# EAGLE library part FAB16Q2 (library con-vg)
CONNECTOR female, 16 pins type Q/2, rows AB, grid 2.54 mm / 5.08 mm
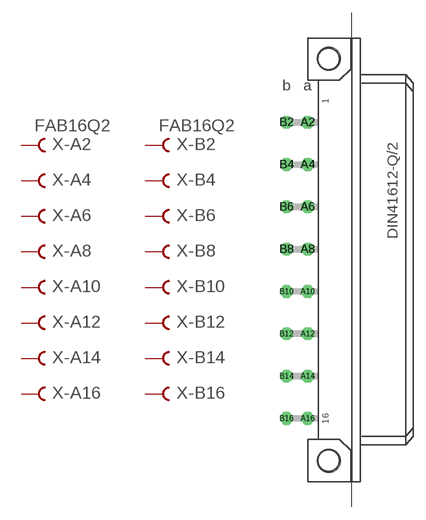
[diagram p49: symbol with the pads of FAB16Q2; footprint FAB16Q2]

Designator prefix X; gates -A4=FEM -A6=FEM -A8=FEM -A10=FEM -A12=FEM -A14=FEM -A16=FEM -B4=FEM -B6=FEM -B8=FEM -B10=FEM -B12=FEM -B14=FEM -B16=FEM -A2=FVAL -B2=FVAL

## FAB16Q2  [FAB16Q2]
A2  -A2:B  pas
A4  -A4:B  pas
A6  -A6:B  pas
A8  -A8:B  pas
A10  -A10:B  pas
A12  -A12:B  pas
A14  -A14:B  pas
A16  -A16:B  pas
B2  -B2:B  pas
B4  -B4:B  pas
B6  -B6:B  pas
B8  -B8:B  pas
B10  -B10:B  pas
B12  -B12:B  pas
B14  -B14:B  pas
B16  -B16:B  pas

## Footprint FAB16Q2 (pad centres in mm)
CONNECTOR female, 16 pins type Q/2, rows AB, grid 2.54 mm / 5.08 mm
drill 1.016 octagon: A2 -2.54,16.51; A4 -2.54,11.43; A6 -2.54,6.35; A8 -2.54,1.27; A10 -2.54,-3.81; A12 -2.54,-8.89; A14 -2.54,-13.97; A16 -2.54,-19.05; B2 -5.08,16.51; B4 -5.08,11.43; B6 -5.08,6.35; B8 -5.08,1.27; B10 -5.08,-3.81; B12 -5.08,-8.89; B14 -5.08,-13.97; B16 -5.08,-19.05
hole 2.794 at 0,-24.136
hole 2.794 at 0,24.136